# EAGLE library part LT6711A (library LT6711A)
LONTIUM SEMICONDUCTOR CORPORATION Source: Datasheet <http://www.usbtech.net/upload/portal/20210129/d73e5232d142fd140d2b9d6b06aa9998.pdf>
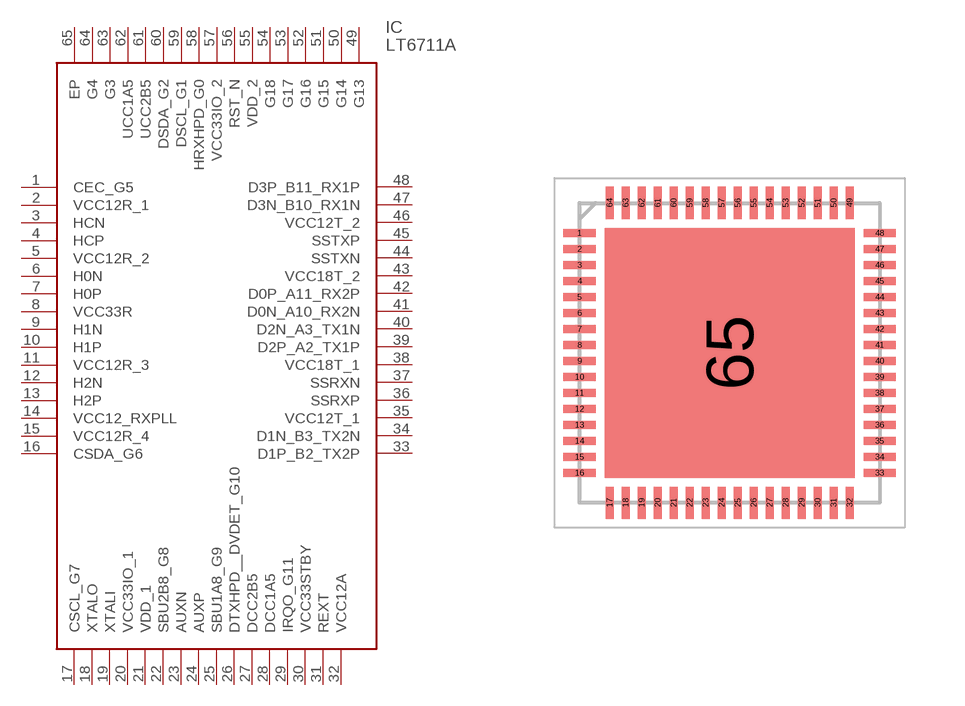
[diagram p0: symbol with the pads of QFN40P750X750X80-65N; footprint QFN40P750X750X80-65N]

Designator prefix IC

## LT6711A (Description: LONTIUM SEMICONDUCTOR CORPORATION; Height: 0.8mm; Manufacturer_Name: Analog Devices; Manufacturer_Part_Number: LT6711A)  [QFN40P750X750X80-65N]
1  CEC_G5
2  VCC12R_1
3  HCN
4  HCP
5  VCC12R_2
6  H0N
7  H0P
8  VCC33R
9  H1N
10  H1P
11  VCC12R_3
12  H2N
13  H2P
14  VCC12_RXPLL
15  VCC12R_4
16  CSDA_G6
17  CSCL_G7
18  XTALO
19  XTALI
20  VCC33IO_1
21  VDD_1
22  SBU2B8_G8
23  AUXN
24  AUXP
25  SBU1A8_G9
26  DTXHPD__DVDET_G10
27  DCC2B5
28  DCC1A5
29  IRQO_G11
30  VCC33STBY
31  REXT
32  VCC12A
33  D1P_B2_TX2P
34  D1N_B3_TX2N
35  VCC12T_1
36  SSRXP
37  SSRXN
38  VCC18T_1
39  D2P_A2_TX1P
40  D2N_A3_TX1N
41  D0N_A10_RX2N
42  D0P_A11_RX2P
43  VCC18T_2
44  SSTXN
45  SSTXP
46  VCC12T_2
47  D3N_B10_RX1N
48  D3P_B11_RX1P
49  G13
50  G14
51  G15
52  G16
53  G17
54  G18
55  VDD_2
56  RST_N
57  VCC33IO_2
58  HRXHPD_G0
59  DSCL_G1
60  DSDA_G2
61  UCC2B5
62  UCC1A5
63  G3
64  G4
65  EP

## Footprint QFN40P750X750X80-65N (pad centres in mm)
LT6711A
smd 0.8 x 0.2: 1 -3.75,3; 2 -3.75,2.6; 3 -3.75,2.2; 4 -3.75,1.8; 5 -3.75,1.4; 6 -3.75,1; 7 -3.75,0.6; 8 -3.75,0.2; 9 -3.75,-0.2; 10 -3.75,-0.6; 11 -3.75,-1; 12 -3.75,-1.4; 13 -3.75,-1.8; 14 -3.75,-2.2; 15 -3.75,-2.6; 16 -3.75,-3; 33 3.75,-3; 34 3.75,-2.6; 35 3.75,-2.2; 36 3.75,-1.8; 37 3.75,-1.4; 38 3.75,-1; 39 3.75,-0.6; 40 3.75,-0.2; 41 3.75,0.2; 42 3.75,0.6; 43 3.75,1; 44 3.75,1.4; 45 3.75,1.8; 46 3.75,2.2; 47 3.75,2.6; 48 3.75,3
smd 0.2 x 0.8: 17 -3,-3.75; 18 -2.6,-3.75; 19 -2.2,-3.75; 20 -1.8,-3.75; 21 -1.4,-3.75; 22 -1,-3.75; 23 -0.6,-3.75; 24 -0.2,-3.75; 25 0.2,-3.75; 26 0.6,-3.75; 27 1,-3.75; 28 1.4,-3.75; 29 1.8,-3.75; 30 2.2,-3.75; 31 2.6,-3.75; 32 3,-3.75; 49 3,3.75; 50 2.6,3.75; 51 2.2,3.75; 52 1.8,3.75; 53 1.4,3.75; 54 1,3.75; 55 0.6,3.75; 56 0.2,3.75; 57 -0.2,3.75; 58 -0.6,3.75; 59 -1,3.75; 60 -1.4,3.75; 61 -1.8,3.75; 62 -2.2,3.75; 63 -2.6,3.75; 64 -3,3.75
smd 6.25 x 6.25: 65 0,0